# Altium integrated library Spansion Memory Flash.IntLib: 812 symbols (part 6 of 21)
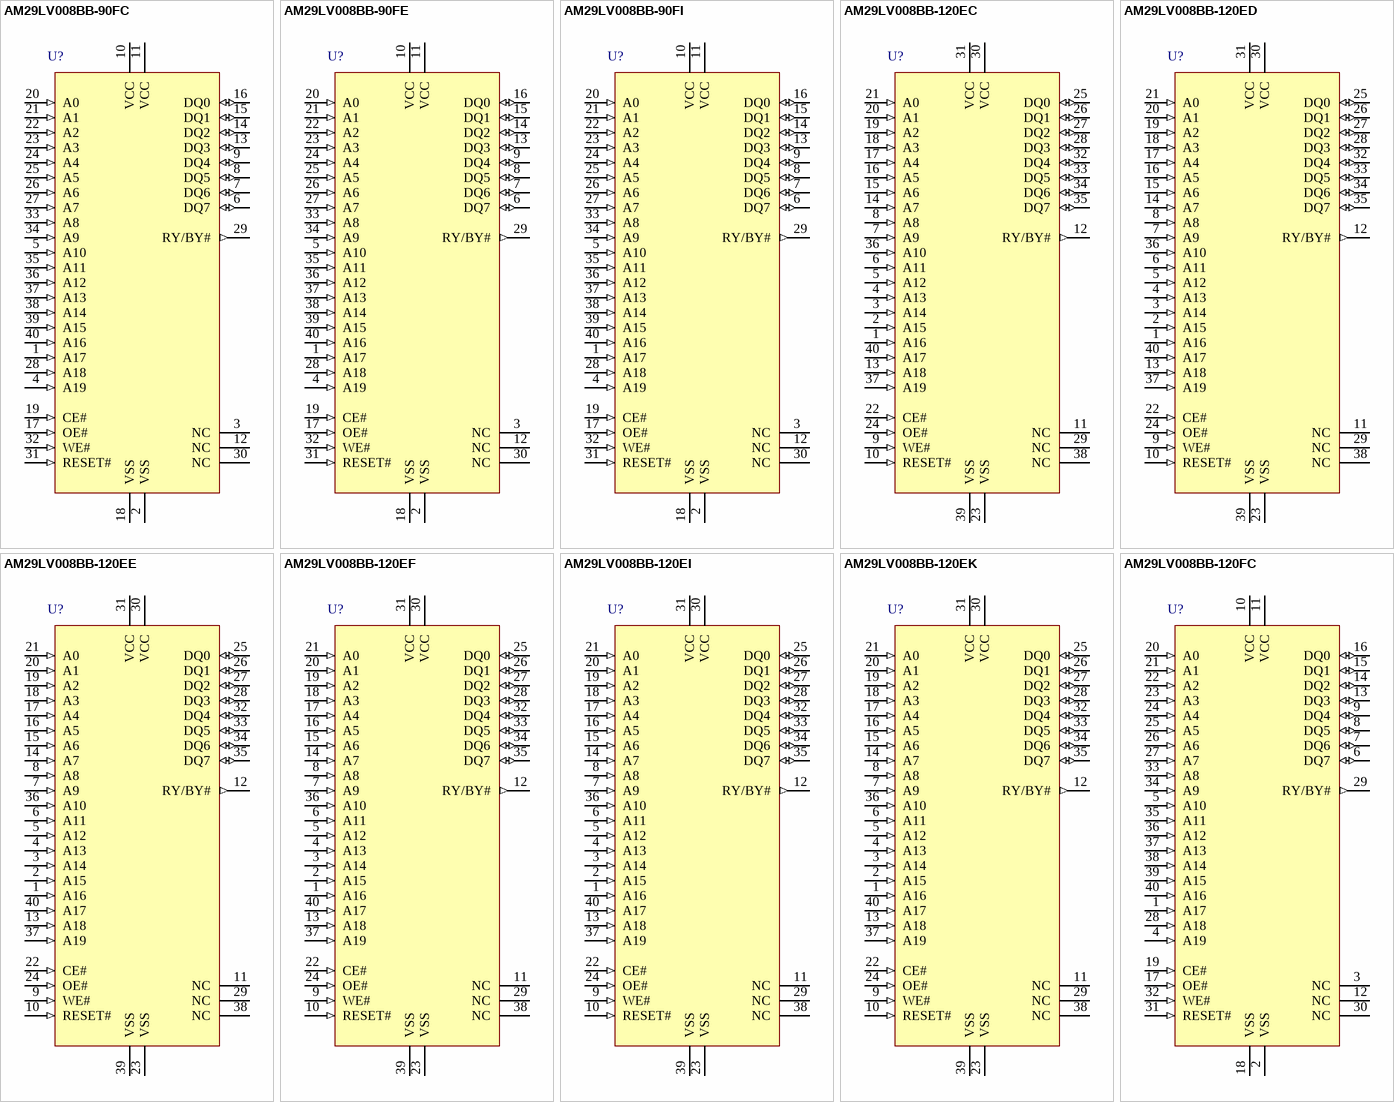
[diagram p71: symbols AM29LV008BB-90FC to AM29LV008BB-120FC]

## AM29LV008BB-120ED
designator U?
8 Mb (1 M x 8) CMOS 3.0 Volt Boot Sector Flash Memory, 40-Pin TSOP Standard Pinout, Commercial Grade, Pb-free; Published: 6-Oct-2005; DatasheetVersion: Jun-2004; PackageVersion: revAA, 10/99; PackageReference: TS040; Publisher: Altium Limited; PackageDescription: Thin Small Outline; 40 Leads; Body Width 18.4 mm; Pitch 0.5 mm; Code_JEDEC: MO-142-CD; ComponentLink1Description: Manufacturer Link; ComponentLink1URL: http://www.spansion.com/; ComponentLink2Description: Datasheet; ComponentLink2URL: http://www.spansion.com/datasheets/21524d3.pdf
footprint TS040 (Thin Small Outline; 40 Leads; Body Width 18.4 mm; Pitch 0.5 mm)
pins: 1 A16 (in), 2 A15 (in), 3 A14 (in), 4 A13 (in), 5 A12 (in), 6 A11 (in), 7 A9 (in), 8 A8 (in), 9 WE# (in), 10 RESET# (in), 11 NC, 12 RY/BY# (out), 13 A18 (in), 14 A7 (in), 15 A6 (in), 16 A5 (in), 17 A4 (in), 18 A3 (in), 19 A2 (in), 20 A1 (in), 21 A0 (in), 22 CE# (in), 23 VSS (power), 24 OE# (in), 25 DQ0 (io), 26 DQ1 (io), 27 DQ2 (io), 28 DQ3 (io), 29 NC, 30 VCC (power), 31 VCC (power), 32 DQ4 (io), 33 DQ5 (io), 34 DQ6 (io), 35 DQ7 (io), 36 A10 (in), 37 A19 (in), 38 NC, 39 VSS (power), 40 A17 (in)

## AM29LV008BB-120EE
designator U?
8 Mb (1 M x 8) CMOS 3.0 Volt Boot Sector Flash Memory, 40-Pin TSOP Standard Pinout, Extended Grade; Published: 6-Oct-2005; DatasheetVersion: Jun-2004; PackageVersion: revAA, 10/99; PackageReference: TS040; Publisher: Altium Limited; PackageDescription: Thin Small Outline; 40 Leads; Body Width 18.4 mm; Pitch 0.5 mm; Code_JEDEC: MO-142-CD; ComponentLink1Description: Manufacturer Link; ComponentLink1URL: http://www.spansion.com/; ComponentLink2Description: Datasheet; ComponentLink2URL: http://www.spansion.com/datasheets/21524d3.pdf
footprint TS040 (Thin Small Outline; 40 Leads; Body Width 18.4 mm; Pitch 0.5 mm)
pins: 1 A16 (in), 2 A15 (in), 3 A14 (in), 4 A13 (in), 5 A12 (in), 6 A11 (in), 7 A9 (in), 8 A8 (in), 9 WE# (in), 10 RESET# (in), 11 NC, 12 RY/BY# (out), 13 A18 (in), 14 A7 (in), 15 A6 (in), 16 A5 (in), 17 A4 (in), 18 A3 (in), 19 A2 (in), 20 A1 (in), 21 A0 (in), 22 CE# (in), 23 VSS (power), 24 OE# (in), 25 DQ0 (io), 26 DQ1 (io), 27 DQ2 (io), 28 DQ3 (io), 29 NC, 30 VCC (power), 31 VCC (power), 32 DQ4 (io), 33 DQ5 (io), 34 DQ6 (io), 35 DQ7 (io), 36 A10 (in), 37 A19 (in), 38 NC, 39 VSS (power), 40 A17 (in)

## AM29LV008BB-120EF
designator U?
8 Mb (1 M x 8) CMOS 3.0 Volt Boot Sector Flash Memory, 40-Pin TSOP Standard Pinout, Industrial Grade, Pb-free; Published: 6-Oct-2005; DatasheetVersion: Jun-2004; PackageVersion: revAA, 10/99; PackageReference: TS040; Publisher: Altium Limited; PackageDescription: Thin Small Outline; 40 Leads; Body Width 18.4 mm; Pitch 0.5 mm; Code_JEDEC: MO-142-CD; ComponentLink1Description: Manufacturer Link; ComponentLink1URL: http://www.spansion.com/; ComponentLink2Description: Datasheet; ComponentLink2URL: http://www.spansion.com/datasheets/21524d3.pdf
footprint TS040 (Thin Small Outline; 40 Leads; Body Width 18.4 mm; Pitch 0.5 mm)
pins: 1 A16 (in), 2 A15 (in), 3 A14 (in), 4 A13 (in), 5 A12 (in), 6 A11 (in), 7 A9 (in), 8 A8 (in), 9 WE# (in), 10 RESET# (in), 11 NC, 12 RY/BY# (out), 13 A18 (in), 14 A7 (in), 15 A6 (in), 16 A5 (in), 17 A4 (in), 18 A3 (in), 19 A2 (in), 20 A1 (in), 21 A0 (in), 22 CE# (in), 23 VSS (power), 24 OE# (in), 25 DQ0 (io), 26 DQ1 (io), 27 DQ2 (io), 28 DQ3 (io), 29 NC, 30 VCC (power), 31 VCC (power), 32 DQ4 (io), 33 DQ5 (io), 34 DQ6 (io), 35 DQ7 (io), 36 A10 (in), 37 A19 (in), 38 NC, 39 VSS (power), 40 A17 (in)

## AM29LV008BB-120EI
designator U?
8 Mb (1 M x 8) CMOS 3.0 Volt Boot Sector Flash Memory, 40-Pin TSOP Standard Pinout, Industrial Grade; Published: 6-Oct-2005; DatasheetVersion: Jun-2004; PackageVersion: revAA, 10/99; PackageReference: TS040; Publisher: Altium Limited; PackageDescription: Thin Small Outline; 40 Leads; Body Width 18.4 mm; Pitch 0.5 mm; Code_JEDEC: MO-142-CD; ComponentLink1Description: Manufacturer Link; ComponentLink1URL: http://www.spansion.com/; ComponentLink2Description: Datasheet; ComponentLink2URL: http://www.spansion.com/datasheets/21524d3.pdf
footprint TS040 (Thin Small Outline; 40 Leads; Body Width 18.4 mm; Pitch 0.5 mm)
pins: 1 A16 (in), 2 A15 (in), 3 A14 (in), 4 A13 (in), 5 A12 (in), 6 A11 (in), 7 A9 (in), 8 A8 (in), 9 WE# (in), 10 RESET# (in), 11 NC, 12 RY/BY# (out), 13 A18 (in), 14 A7 (in), 15 A6 (in), 16 A5 (in), 17 A4 (in), 18 A3 (in), 19 A2 (in), 20 A1 (in), 21 A0 (in), 22 CE# (in), 23 VSS (power), 24 OE# (in), 25 DQ0 (io), 26 DQ1 (io), 27 DQ2 (io), 28 DQ3 (io), 29 NC, 30 VCC (power), 31 VCC (power), 32 DQ4 (io), 33 DQ5 (io), 34 DQ6 (io), 35 DQ7 (io), 36 A10 (in), 37 A19 (in), 38 NC, 39 VSS (power), 40 A17 (in)

## AM29LV008BB-120EK
designator U?
8 Mb (1 M x 8) CMOS 3.0 Volt Boot Sector Flash Memory, 40-Pin TSOP Standard Pinout, Extended Grade, Pb-free; Published: 6-Oct-2005; DatasheetVersion: Jun-2004; PackageVersion: revAA, 10/99; PackageReference: TS040; Publisher: Altium Limited; PackageDescription: Thin Small Outline; 40 Leads; Body Width 18.4 mm; Pitch 0.5 mm; Code_JEDEC: MO-142-CD; ComponentLink1Description: Manufacturer Link; ComponentLink1URL: http://www.spansion.com/; ComponentLink2Description: Datasheet; ComponentLink2URL: http://www.spansion.com/datasheets/21524d3.pdf
footprint TS040 (Thin Small Outline; 40 Leads; Body Width 18.4 mm; Pitch 0.5 mm)
pins: 1 A16 (in), 2 A15 (in), 3 A14 (in), 4 A13 (in), 5 A12 (in), 6 A11 (in), 7 A9 (in), 8 A8 (in), 9 WE# (in), 10 RESET# (in), 11 NC, 12 RY/BY# (out), 13 A18 (in), 14 A7 (in), 15 A6 (in), 16 A5 (in), 17 A4 (in), 18 A3 (in), 19 A2 (in), 20 A1 (in), 21 A0 (in), 22 CE# (in), 23 VSS (power), 24 OE# (in), 25 DQ0 (io), 26 DQ1 (io), 27 DQ2 (io), 28 DQ3 (io), 29 NC, 30 VCC (power), 31 VCC (power), 32 DQ4 (io), 33 DQ5 (io), 34 DQ6 (io), 35 DQ7 (io), 36 A10 (in), 37 A19 (in), 38 NC, 39 VSS (power), 40 A17 (in)

## AM29LV008BB-120FC
designator U?
8 Mb (1 M x 8) CMOS 3.0 Volt Boot Sector Flash Memory, 40-Pin TSOP Reverse Pinout, Commercial Grade; Published: 6-Oct-2005; DatasheetVersion: Jun-2004; PackageVersion: revAA, 10/99; PackageReference: TSR040; Publisher: Altium Limited; PackageDescription: Thin Small Outline, Reverse Pinout; 40 Leads; Body Width 18.4 mm; Pitch 0.5 mm; Code_JEDEC: MO-142-CD; ComponentLink1Description: Manufacturer Link; ComponentLink1URL: http://www.spansion.com/; ComponentLink2Description: Datasheet; ComponentLink2URL: http://www.spansion.com/datasheets/21524d3.pdf
footprint TSR040 (Thin Small Outline, Reverse Pinout; 40 Leads; Body Width 18.4 mm; Pitch 0.5 mm)
pins: 1 A17 (in), 2 VSS (power), 3 NC, 4 A19 (in), 5 A10 (in), 6 DQ7 (io), 7 DQ6 (io), 8 DQ5 (io), 9 DQ4 (io), 10 VCC (power), 11 VCC (power), 12 NC, 13 DQ3 (io), 14 DQ2 (io), 15 DQ1 (io), 16 DQ0 (io), 17 OE# (in), 18 VSS (power), 19 CE# (in), 20 A0 (in), 21 A1 (in), 22 A2 (in), 23 A3 (in), 24 A4 (in), 25 A5 (in), 26 A6 (in), 27 A7 (in), 28 A18 (in), 29 RY/BY# (out), 30 NC, 31 RESET# (in), 32 WE# (in), 33 A8 (in), 34 A9 (in), 35 A11 (in), 36 A12 (in), 37 A13 (in), 38 A14 (in), 39 A15 (in), 40 A16 (in)

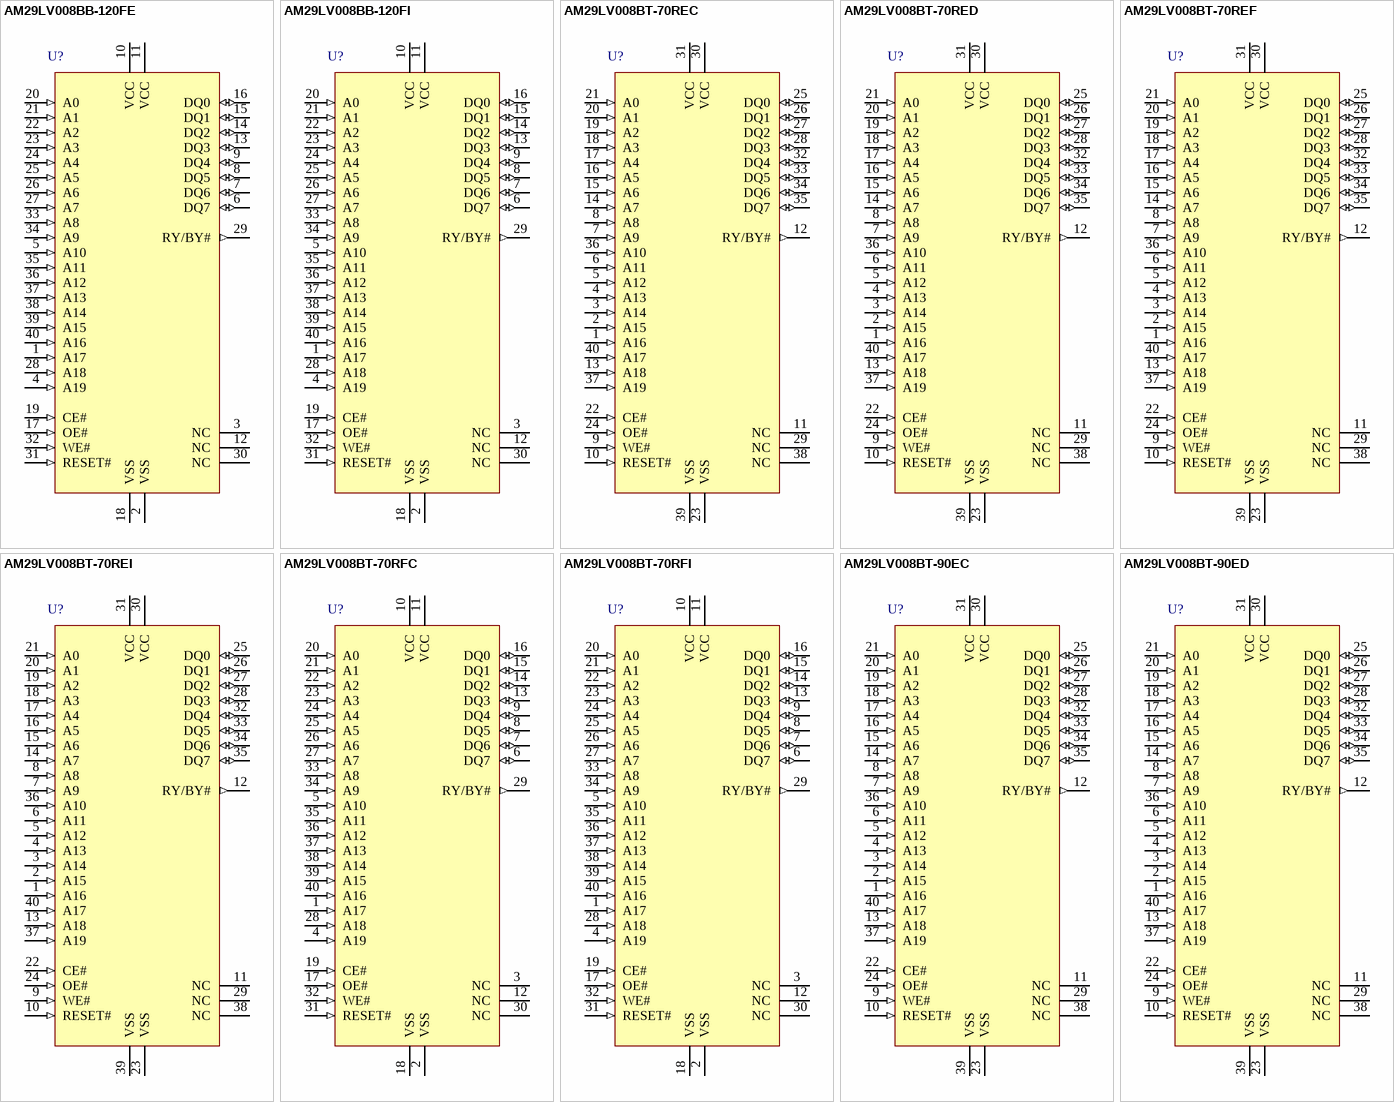
[diagram p16: symbols AM29LV008BB-120FE to AM29LV008BT-90ED]

## AM29LV008BB-120FE
designator U?
8 Mb (1 M x 8) CMOS 3.0 Volt Boot Sector Flash Memory, 40-Pin TSOP Reverse Pinout, Extended Grade; Published: 6-Oct-2005; DatasheetVersion: Jun-2004; PackageVersion: revAA, 10/99; PackageReference: TSR040; Publisher: Altium Limited; PackageDescription: Thin Small Outline, Reverse Pinout; 40 Leads; Body Width 18.4 mm; Pitch 0.5 mm; Code_JEDEC: MO-142-CD; ComponentLink1Description: Manufacturer Link; ComponentLink1URL: http://www.spansion.com/; ComponentLink2Description: Datasheet; ComponentLink2URL: http://www.spansion.com/datasheets/21524d3.pdf
footprint TSR040 (Thin Small Outline, Reverse Pinout; 40 Leads; Body Width 18.4 mm; Pitch 0.5 mm)
pins: 1 A17 (in), 2 VSS (power), 3 NC, 4 A19 (in), 5 A10 (in), 6 DQ7 (io), 7 DQ6 (io), 8 DQ5 (io), 9 DQ4 (io), 10 VCC (power), 11 VCC (power), 12 NC, 13 DQ3 (io), 14 DQ2 (io), 15 DQ1 (io), 16 DQ0 (io), 17 OE# (in), 18 VSS (power), 19 CE# (in), 20 A0 (in), 21 A1 (in), 22 A2 (in), 23 A3 (in), 24 A4 (in), 25 A5 (in), 26 A6 (in), 27 A7 (in), 28 A18 (in), 29 RY/BY# (out), 30 NC, 31 RESET# (in), 32 WE# (in), 33 A8 (in), 34 A9 (in), 35 A11 (in), 36 A12 (in), 37 A13 (in), 38 A14 (in), 39 A15 (in), 40 A16 (in)

## AM29LV008BB-120FI
designator U?
8 Mb (1 M x 8) CMOS 3.0 Volt Boot Sector Flash Memory, 40-Pin TSOP Reverse Pinout, Industrial Grade; Published: 6-Oct-2005; DatasheetVersion: Jun-2004; PackageVersion: revAA, 10/99; PackageReference: TSR040; Publisher: Altium Limited; PackageDescription: Thin Small Outline, Reverse Pinout; 40 Leads; Body Width 18.4 mm; Pitch 0.5 mm; Code_JEDEC: MO-142-CD; ComponentLink1Description: Manufacturer Link; ComponentLink1URL: http://www.spansion.com/; ComponentLink2Description: Datasheet; ComponentLink2URL: http://www.spansion.com/datasheets/21524d3.pdf
footprint TSR040 (Thin Small Outline, Reverse Pinout; 40 Leads; Body Width 18.4 mm; Pitch 0.5 mm)
pins: 1 A17 (in), 2 VSS (power), 3 NC, 4 A19 (in), 5 A10 (in), 6 DQ7 (io), 7 DQ6 (io), 8 DQ5 (io), 9 DQ4 (io), 10 VCC (power), 11 VCC (power), 12 NC, 13 DQ3 (io), 14 DQ2 (io), 15 DQ1 (io), 16 DQ0 (io), 17 OE# (in), 18 VSS (power), 19 CE# (in), 20 A0 (in), 21 A1 (in), 22 A2 (in), 23 A3 (in), 24 A4 (in), 25 A5 (in), 26 A6 (in), 27 A7 (in), 28 A18 (in), 29 RY/BY# (out), 30 NC, 31 RESET# (in), 32 WE# (in), 33 A8 (in), 34 A9 (in), 35 A11 (in), 36 A12 (in), 37 A13 (in), 38 A14 (in), 39 A15 (in), 40 A16 (in)

## AM29LV008BT-70REC
designator U?
8 Mb (1 M x 8) CMOS 3.0 Volt Boot Sector Flash Memory, 40-Pin TSOP Standard Pinout, Commercial Grade; Published: 6-Oct-2005; DatasheetVersion: Jun-2004; PackageVersion: revAA, 10/99; PackageReference: TS040; Publisher: Altium Limited; PackageDescription: Thin Small Outline; 40 Leads; Body Width 18.4 mm; Pitch 0.5 mm; Code_JEDEC: MO-142-CD; ComponentLink1Description: Manufacturer Link; ComponentLink1URL: http://www.spansion.com/; ComponentLink2Description: Datasheet; ComponentLink2URL: http://www.spansion.com/datasheets/21524d3.pdf
footprint TS040 (Thin Small Outline; 40 Leads; Body Width 18.4 mm; Pitch 0.5 mm)
pins: 1 A16 (in), 2 A15 (in), 3 A14 (in), 4 A13 (in), 5 A12 (in), 6 A11 (in), 7 A9 (in), 8 A8 (in), 9 WE# (in), 10 RESET# (in), 11 NC, 12 RY/BY# (out), 13 A18 (in), 14 A7 (in), 15 A6 (in), 16 A5 (in), 17 A4 (in), 18 A3 (in), 19 A2 (in), 20 A1 (in), 21 A0 (in), 22 CE# (in), 23 VSS (power), 24 OE# (in), 25 DQ0 (io), 26 DQ1 (io), 27 DQ2 (io), 28 DQ3 (io), 29 NC, 30 VCC (power), 31 VCC (power), 32 DQ4 (io), 33 DQ5 (io), 34 DQ6 (io), 35 DQ7 (io), 36 A10 (in), 37 A19 (in), 38 NC, 39 VSS (power), 40 A17 (in)

## AM29LV008BT-70RED
designator U?
8 Mb (1 M x 8) CMOS 3.0 Volt Boot Sector Flash Memory, 40-Pin TSOP Standard Pinout, Commercial Grade, Pb-free; Published: 6-Oct-2005; DatasheetVersion: Jun-2004; PackageVersion: revAA, 10/99; PackageReference: TS040; Publisher: Altium Limited; PackageDescription: Thin Small Outline; 40 Leads; Body Width 18.4 mm; Pitch 0.5 mm; Code_JEDEC: MO-142-CD; ComponentLink1Description: Manufacturer Link; ComponentLink1URL: http://www.spansion.com/; ComponentLink2Description: Datasheet; ComponentLink2URL: http://www.spansion.com/datasheets/21524d3.pdf
footprint TS040 (Thin Small Outline; 40 Leads; Body Width 18.4 mm; Pitch 0.5 mm)
pins: 1 A16 (in), 2 A15 (in), 3 A14 (in), 4 A13 (in), 5 A12 (in), 6 A11 (in), 7 A9 (in), 8 A8 (in), 9 WE# (in), 10 RESET# (in), 11 NC, 12 RY/BY# (out), 13 A18 (in), 14 A7 (in), 15 A6 (in), 16 A5 (in), 17 A4 (in), 18 A3 (in), 19 A2 (in), 20 A1 (in), 21 A0 (in), 22 CE# (in), 23 VSS (power), 24 OE# (in), 25 DQ0 (io), 26 DQ1 (io), 27 DQ2 (io), 28 DQ3 (io), 29 NC, 30 VCC (power), 31 VCC (power), 32 DQ4 (io), 33 DQ5 (io), 34 DQ6 (io), 35 DQ7 (io), 36 A10 (in), 37 A19 (in), 38 NC, 39 VSS (power), 40 A17 (in)

## AM29LV008BT-70REF
designator U?
8 Mb (1 M x 8) CMOS 3.0 Volt Boot Sector Flash Memory, 40-Pin TSOP Standard Pinout, Industrial Grade, Pb-free; Published: 6-Oct-2005; DatasheetVersion: Jun-2004; PackageVersion: revAA, 10/99; PackageReference: TS040; Publisher: Altium Limited; PackageDescription: Thin Small Outline; 40 Leads; Body Width 18.4 mm; Pitch 0.5 mm; Code_JEDEC: MO-142-CD; ComponentLink1Description: Manufacturer Link; ComponentLink1URL: http://www.spansion.com/; ComponentLink2Description: Datasheet; ComponentLink2URL: http://www.spansion.com/datasheets/21524d3.pdf
footprint TS040 (Thin Small Outline; 40 Leads; Body Width 18.4 mm; Pitch 0.5 mm)
pins: 1 A16 (in), 2 A15 (in), 3 A14 (in), 4 A13 (in), 5 A12 (in), 6 A11 (in), 7 A9 (in), 8 A8 (in), 9 WE# (in), 10 RESET# (in), 11 NC, 12 RY/BY# (out), 13 A18 (in), 14 A7 (in), 15 A6 (in), 16 A5 (in), 17 A4 (in), 18 A3 (in), 19 A2 (in), 20 A1 (in), 21 A0 (in), 22 CE# (in), 23 VSS (power), 24 OE# (in), 25 DQ0 (io), 26 DQ1 (io), 27 DQ2 (io), 28 DQ3 (io), 29 NC, 30 VCC (power), 31 VCC (power), 32 DQ4 (io), 33 DQ5 (io), 34 DQ6 (io), 35 DQ7 (io), 36 A10 (in), 37 A19 (in), 38 NC, 39 VSS (power), 40 A17 (in)

## AM29LV008BT-70REI
designator U?
8 Mb (1 M x 8) CMOS 3.0 Volt Boot Sector Flash Memory, 40-Pin TSOP Standard Pinout, Industrial Grade; Published: 6-Oct-2005; DatasheetVersion: Jun-2004; PackageVersion: revAA, 10/99; PackageReference: TS040; Publisher: Altium Limited; PackageDescription: Thin Small Outline; 40 Leads; Body Width 18.4 mm; Pitch 0.5 mm; Code_JEDEC: MO-142-CD; ComponentLink1Description: Manufacturer Link; ComponentLink1URL: http://www.spansion.com/; ComponentLink2Description: Datasheet; ComponentLink2URL: http://www.spansion.com/datasheets/21524d3.pdf
footprint TS040 (Thin Small Outline; 40 Leads; Body Width 18.4 mm; Pitch 0.5 mm)
pins: 1 A16 (in), 2 A15 (in), 3 A14 (in), 4 A13 (in), 5 A12 (in), 6 A11 (in), 7 A9 (in), 8 A8 (in), 9 WE# (in), 10 RESET# (in), 11 NC, 12 RY/BY# (out), 13 A18 (in), 14 A7 (in), 15 A6 (in), 16 A5 (in), 17 A4 (in), 18 A3 (in), 19 A2 (in), 20 A1 (in), 21 A0 (in), 22 CE# (in), 23 VSS (power), 24 OE# (in), 25 DQ0 (io), 26 DQ1 (io), 27 DQ2 (io), 28 DQ3 (io), 29 NC, 30 VCC (power), 31 VCC (power), 32 DQ4 (io), 33 DQ5 (io), 34 DQ6 (io), 35 DQ7 (io), 36 A10 (in), 37 A19 (in), 38 NC, 39 VSS (power), 40 A17 (in)

## AM29LV008BT-70RFC
designator U?
8 Mb (1 M x 8) CMOS 3.0 Volt Boot Sector Flash Memory, 40-Pin TSOP Reverse Pinout, Commercial Grade; Published: 6-Oct-2005; DatasheetVersion: Jun-2004; PackageVersion: revAA, 10/99; PackageReference: TSR040; Publisher: Altium Limited; PackageDescription: Thin Small Outline, Reverse Pinout; 40 Leads; Body Width 18.4 mm; Pitch 0.5 mm; Code_JEDEC: MO-142-CD; ComponentLink1Description: Manufacturer Link; ComponentLink1URL: http://www.spansion.com/; ComponentLink2Description: Datasheet; ComponentLink2URL: http://www.spansion.com/datasheets/21524d3.pdf
footprint TSR040 (Thin Small Outline, Reverse Pinout; 40 Leads; Body Width 18.4 mm; Pitch 0.5 mm)
pins: 1 A17 (in), 2 VSS (power), 3 NC, 4 A19 (in), 5 A10 (in), 6 DQ7 (io), 7 DQ6 (io), 8 DQ5 (io), 9 DQ4 (io), 10 VCC (power), 11 VCC (power), 12 NC, 13 DQ3 (io), 14 DQ2 (io), 15 DQ1 (io), 16 DQ0 (io), 17 OE# (in), 18 VSS (power), 19 CE# (in), 20 A0 (in), 21 A1 (in), 22 A2 (in), 23 A3 (in), 24 A4 (in), 25 A5 (in), 26 A6 (in), 27 A7 (in), 28 A18 (in), 29 RY/BY# (out), 30 NC, 31 RESET# (in), 32 WE# (in), 33 A8 (in), 34 A9 (in), 35 A11 (in), 36 A12 (in), 37 A13 (in), 38 A14 (in), 39 A15 (in), 40 A16 (in)

## AM29LV008BT-70RFI
designator U?
8 Mb (1 M x 8) CMOS 3.0 Volt Boot Sector Flash Memory, 40-Pin TSOP Reverse Pinout, Industrial Grade; Published: 6-Oct-2005; DatasheetVersion: Jun-2004; PackageVersion: revAA, 10/99; PackageReference: TSR040; Publisher: Altium Limited; PackageDescription: Thin Small Outline, Reverse Pinout; 40 Leads; Body Width 18.4 mm; Pitch 0.5 mm; Code_JEDEC: MO-142-CD; ComponentLink1Description: Manufacturer Link; ComponentLink1URL: http://www.spansion.com/; ComponentLink2Description: Datasheet; ComponentLink2URL: http://www.spansion.com/datasheets/21524d3.pdf
footprint TSR040 (Thin Small Outline, Reverse Pinout; 40 Leads; Body Width 18.4 mm; Pitch 0.5 mm)
pins: 1 A17 (in), 2 VSS (power), 3 NC, 4 A19 (in), 5 A10 (in), 6 DQ7 (io), 7 DQ6 (io), 8 DQ5 (io), 9 DQ4 (io), 10 VCC (power), 11 VCC (power), 12 NC, 13 DQ3 (io), 14 DQ2 (io), 15 DQ1 (io), 16 DQ0 (io), 17 OE# (in), 18 VSS (power), 19 CE# (in), 20 A0 (in), 21 A1 (in), 22 A2 (in), 23 A3 (in), 24 A4 (in), 25 A5 (in), 26 A6 (in), 27 A7 (in), 28 A18 (in), 29 RY/BY# (out), 30 NC, 31 RESET# (in), 32 WE# (in), 33 A8 (in), 34 A9 (in), 35 A11 (in), 36 A12 (in), 37 A13 (in), 38 A14 (in), 39 A15 (in), 40 A16 (in)

## AM29LV008BT-90EC
designator U?
8 Mb (1 M x 8) CMOS 3.0 Volt Boot Sector Flash Memory, 40-Pin TSOP Standard Pinout, Commercial Grade; Published: 6-Oct-2005; DatasheetVersion: Jun-2004; PackageVersion: revAA, 10/99; PackageReference: TS040; Publisher: Altium Limited; PackageDescription: Thin Small Outline; 40 Leads; Body Width 18.4 mm; Pitch 0.5 mm; Code_JEDEC: MO-142-CD; ComponentLink1Description: Manufacturer Link; ComponentLink1URL: http://www.spansion.com/; ComponentLink2Description: Datasheet; ComponentLink2URL: http://www.spansion.com/datasheets/21524d3.pdf
footprint TS040 (Thin Small Outline; 40 Leads; Body Width 18.4 mm; Pitch 0.5 mm)
pins: 1 A16 (in), 2 A15 (in), 3 A14 (in), 4 A13 (in), 5 A12 (in), 6 A11 (in), 7 A9 (in), 8 A8 (in), 9 WE# (in), 10 RESET# (in), 11 NC, 12 RY/BY# (out), 13 A18 (in), 14 A7 (in), 15 A6 (in), 16 A5 (in), 17 A4 (in), 18 A3 (in), 19 A2 (in), 20 A1 (in), 21 A0 (in), 22 CE# (in), 23 VSS (power), 24 OE# (in), 25 DQ0 (io), 26 DQ1 (io), 27 DQ2 (io), 28 DQ3 (io), 29 NC, 30 VCC (power), 31 VCC (power), 32 DQ4 (io), 33 DQ5 (io), 34 DQ6 (io), 35 DQ7 (io), 36 A10 (in), 37 A19 (in), 38 NC, 39 VSS (power), 40 A17 (in)

## AM29LV008BT-90ED
designator U?
8 Mb (1 M x 8) CMOS 3.0 Volt Boot Sector Flash Memory, 40-Pin TSOP Standard Pinout, Commercial Grade, Pb-free; Published: 6-Oct-2005; DatasheetVersion: Jun-2004; PackageVersion: revAA, 10/99; PackageReference: TS040; Publisher: Altium Limited; PackageDescription: Thin Small Outline; 40 Leads; Body Width 18.4 mm; Pitch 0.5 mm; Code_JEDEC: MO-142-CD; ComponentLink1Description: Manufacturer Link; ComponentLink1URL: http://www.spansion.com/; ComponentLink2Description: Datasheet; ComponentLink2URL: http://www.spansion.com/datasheets/21524d3.pdf
footprint TS040 (Thin Small Outline; 40 Leads; Body Width 18.4 mm; Pitch 0.5 mm)
pins: 1 A16 (in), 2 A15 (in), 3 A14 (in), 4 A13 (in), 5 A12 (in), 6 A11 (in), 7 A9 (in), 8 A8 (in), 9 WE# (in), 10 RESET# (in), 11 NC, 12 RY/BY# (out), 13 A18 (in), 14 A7 (in), 15 A6 (in), 16 A5 (in), 17 A4 (in), 18 A3 (in), 19 A2 (in), 20 A1 (in), 21 A0 (in), 22 CE# (in), 23 VSS (power), 24 OE# (in), 25 DQ0 (io), 26 DQ1 (io), 27 DQ2 (io), 28 DQ3 (io), 29 NC, 30 VCC (power), 31 VCC (power), 32 DQ4 (io), 33 DQ5 (io), 34 DQ6 (io), 35 DQ7 (io), 36 A10 (in), 37 A19 (in), 38 NC, 39 VSS (power), 40 A17 (in)

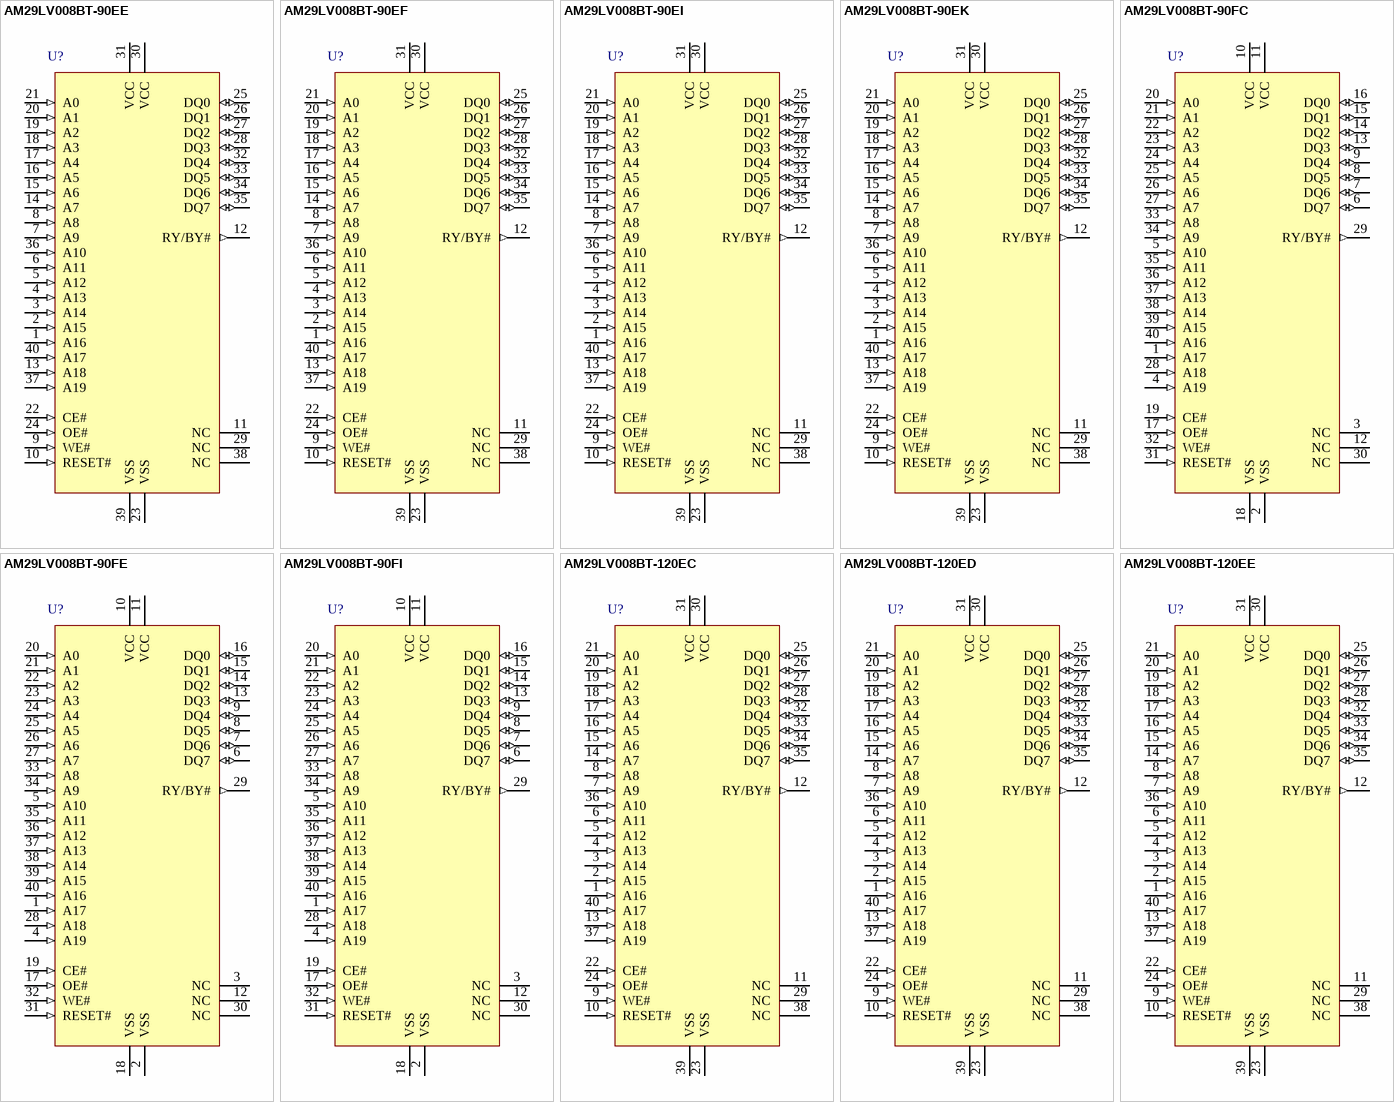
[diagram p17: symbols AM29LV008BT-90EE to AM29LV008BT-120EE]

## AM29LV008BT-90EE
designator U?
8 Mb (1 M x 8) CMOS 3.0 Volt Boot Sector Flash Memory, 40-Pin TSOP Standard Pinout, Extended Grade; Published: 6-Oct-2005; DatasheetVersion: Jun-2004; PackageVersion: revAA, 10/99; PackageReference: TS040; Publisher: Altium Limited; PackageDescription: Thin Small Outline; 40 Leads; Body Width 18.4 mm; Pitch 0.5 mm; Code_JEDEC: MO-142-CD; ComponentLink1Description: Manufacturer Link; ComponentLink1URL: http://www.spansion.com/; ComponentLink2Description: Datasheet; ComponentLink2URL: http://www.spansion.com/datasheets/21524d3.pdf
footprint TS040 (Thin Small Outline; 40 Leads; Body Width 18.4 mm; Pitch 0.5 mm)
pins: 1 A16 (in), 2 A15 (in), 3 A14 (in), 4 A13 (in), 5 A12 (in), 6 A11 (in), 7 A9 (in), 8 A8 (in), 9 WE# (in), 10 RESET# (in), 11 NC, 12 RY/BY# (out), 13 A18 (in), 14 A7 (in), 15 A6 (in), 16 A5 (in), 17 A4 (in), 18 A3 (in), 19 A2 (in), 20 A1 (in), 21 A0 (in), 22 CE# (in), 23 VSS (power), 24 OE# (in), 25 DQ0 (io), 26 DQ1 (io), 27 DQ2 (io), 28 DQ3 (io), 29 NC, 30 VCC (power), 31 VCC (power), 32 DQ4 (io), 33 DQ5 (io), 34 DQ6 (io), 35 DQ7 (io), 36 A10 (in), 37 A19 (in), 38 NC, 39 VSS (power), 40 A17 (in)

## AM29LV008BT-90EF
designator U?
8 Mb (1 M x 8) CMOS 3.0 Volt Boot Sector Flash Memory, 40-Pin TSOP Standard Pinout, Industrial Grade, Pb-free; Published: 6-Oct-2005; DatasheetVersion: Jun-2004; PackageVersion: revAA, 10/99; PackageReference: TS040; Publisher: Altium Limited; PackageDescription: Thin Small Outline; 40 Leads; Body Width 18.4 mm; Pitch 0.5 mm; Code_JEDEC: MO-142-CD; ComponentLink1Description: Manufacturer Link; ComponentLink1URL: http://www.spansion.com/; ComponentLink2Description: Datasheet; ComponentLink2URL: http://www.spansion.com/datasheets/21524d3.pdf
footprint TS040 (Thin Small Outline; 40 Leads; Body Width 18.4 mm; Pitch 0.5 mm)
pins: 1 A16 (in), 2 A15 (in), 3 A14 (in), 4 A13 (in), 5 A12 (in), 6 A11 (in), 7 A9 (in), 8 A8 (in), 9 WE# (in), 10 RESET# (in), 11 NC, 12 RY/BY# (out), 13 A18 (in), 14 A7 (in), 15 A6 (in), 16 A5 (in), 17 A4 (in), 18 A3 (in), 19 A2 (in), 20 A1 (in), 21 A0 (in), 22 CE# (in), 23 VSS (power), 24 OE# (in), 25 DQ0 (io), 26 DQ1 (io), 27 DQ2 (io), 28 DQ3 (io), 29 NC, 30 VCC (power), 31 VCC (power), 32 DQ4 (io), 33 DQ5 (io), 34 DQ6 (io), 35 DQ7 (io), 36 A10 (in), 37 A19 (in), 38 NC, 39 VSS (power), 40 A17 (in)

## AM29LV008BT-90EI
designator U?
8 Mb (1 M x 8) CMOS 3.0 Volt Boot Sector Flash Memory, 40-Pin TSOP Standard Pinout, Industrial Grade; Published: 6-Oct-2005; DatasheetVersion: Jun-2004; PackageVersion: revAA, 10/99; PackageReference: TS040; Publisher: Altium Limited; PackageDescription: Thin Small Outline; 40 Leads; Body Width 18.4 mm; Pitch 0.5 mm; Code_JEDEC: MO-142-CD; ComponentLink1Description: Manufacturer Link; ComponentLink1URL: http://www.spansion.com/; ComponentLink2Description: Datasheet; ComponentLink2URL: http://www.spansion.com/datasheets/21524d3.pdf
footprint TS040 (Thin Small Outline; 40 Leads; Body Width 18.4 mm; Pitch 0.5 mm)
pins: 1 A16 (in), 2 A15 (in), 3 A14 (in), 4 A13 (in), 5 A12 (in), 6 A11 (in), 7 A9 (in), 8 A8 (in), 9 WE# (in), 10 RESET# (in), 11 NC, 12 RY/BY# (out), 13 A18 (in), 14 A7 (in), 15 A6 (in), 16 A5 (in), 17 A4 (in), 18 A3 (in), 19 A2 (in), 20 A1 (in), 21 A0 (in), 22 CE# (in), 23 VSS (power), 24 OE# (in), 25 DQ0 (io), 26 DQ1 (io), 27 DQ2 (io), 28 DQ3 (io), 29 NC, 30 VCC (power), 31 VCC (power), 32 DQ4 (io), 33 DQ5 (io), 34 DQ6 (io), 35 DQ7 (io), 36 A10 (in), 37 A19 (in), 38 NC, 39 VSS (power), 40 A17 (in)

## AM29LV008BT-90EK
designator U?
8 Mb (1 M x 8) CMOS 3.0 Volt Boot Sector Flash Memory, 40-Pin TSOP Standard Pinout, Extended Grade, Pb-free; Published: 6-Oct-2005; DatasheetVersion: Jun-2004; PackageVersion: revAA, 10/99; PackageReference: TS040; Publisher: Altium Limited; PackageDescription: Thin Small Outline; 40 Leads; Body Width 18.4 mm; Pitch 0.5 mm; Code_JEDEC: MO-142-CD; ComponentLink1Description: Manufacturer Link; ComponentLink1URL: http://www.spansion.com/; ComponentLink2Description: Datasheet; ComponentLink2URL: http://www.spansion.com/datasheets/21524d3.pdf
footprint TS040 (Thin Small Outline; 40 Leads; Body Width 18.4 mm; Pitch 0.5 mm)
pins: 1 A16 (in), 2 A15 (in), 3 A14 (in), 4 A13 (in), 5 A12 (in), 6 A11 (in), 7 A9 (in), 8 A8 (in), 9 WE# (in), 10 RESET# (in), 11 NC, 12 RY/BY# (out), 13 A18 (in), 14 A7 (in), 15 A6 (in), 16 A5 (in), 17 A4 (in), 18 A3 (in), 19 A2 (in), 20 A1 (in), 21 A0 (in), 22 CE# (in), 23 VSS (power), 24 OE# (in), 25 DQ0 (io), 26 DQ1 (io), 27 DQ2 (io), 28 DQ3 (io), 29 NC, 30 VCC (power), 31 VCC (power), 32 DQ4 (io), 33 DQ5 (io), 34 DQ6 (io), 35 DQ7 (io), 36 A10 (in), 37 A19 (in), 38 NC, 39 VSS (power), 40 A17 (in)

## AM29LV008BT-90FC
designator U?
8 Mb (1 M x 8) CMOS 3.0 Volt Boot Sector Flash Memory, 40-Pin TSOP Reverse Pinout, Commercial Grade; Published: 6-Oct-2005; DatasheetVersion: Jun-2004; PackageVersion: revAA, 10/99; PackageReference: TSR040; Publisher: Altium Limited; PackageDescription: Thin Small Outline, Reverse Pinout; 40 Leads; Body Width 18.4 mm; Pitch 0.5 mm; Code_JEDEC: MO-142-CD; ComponentLink1Description: Manufacturer Link; ComponentLink1URL: http://www.spansion.com/; ComponentLink2Description: Datasheet; ComponentLink2URL: http://www.spansion.com/datasheets/21524d3.pdf
footprint TSR040 (Thin Small Outline, Reverse Pinout; 40 Leads; Body Width 18.4 mm; Pitch 0.5 mm)
pins: 1 A17 (in), 2 VSS (power), 3 NC, 4 A19 (in), 5 A10 (in), 6 DQ7 (io), 7 DQ6 (io), 8 DQ5 (io), 9 DQ4 (io), 10 VCC (power), 11 VCC (power), 12 NC, 13 DQ3 (io), 14 DQ2 (io), 15 DQ1 (io), 16 DQ0 (io), 17 OE# (in), 18 VSS (power), 19 CE# (in), 20 A0 (in), 21 A1 (in), 22 A2 (in), 23 A3 (in), 24 A4 (in), 25 A5 (in), 26 A6 (in), 27 A7 (in), 28 A18 (in), 29 RY/BY# (out), 30 NC, 31 RESET# (in), 32 WE# (in), 33 A8 (in), 34 A9 (in), 35 A11 (in), 36 A12 (in), 37 A13 (in), 38 A14 (in), 39 A15 (in), 40 A16 (in)

## AM29LV008BT-90FE
designator U?
8 Mb (1 M x 8) CMOS 3.0 Volt Boot Sector Flash Memory, 40-Pin TSOP Reverse Pinout, Extended Grade; Published: 6-Oct-2005; DatasheetVersion: Jun-2004; PackageVersion: revAA, 10/99; PackageReference: TSR040; Publisher: Altium Limited; PackageDescription: Thin Small Outline, Reverse Pinout; 40 Leads; Body Width 18.4 mm; Pitch 0.5 mm; Code_JEDEC: MO-142-CD; ComponentLink1Description: Manufacturer Link; ComponentLink1URL: http://www.spansion.com/; ComponentLink2Description: Datasheet; ComponentLink2URL: http://www.spansion.com/datasheets/21524d3.pdf
footprint TSR040 (Thin Small Outline, Reverse Pinout; 40 Leads; Body Width 18.4 mm; Pitch 0.5 mm)
pins: 1 A17 (in), 2 VSS (power), 3 NC, 4 A19 (in), 5 A10 (in), 6 DQ7 (io), 7 DQ6 (io), 8 DQ5 (io), 9 DQ4 (io), 10 VCC (power), 11 VCC (power), 12 NC, 13 DQ3 (io), 14 DQ2 (io), 15 DQ1 (io), 16 DQ0 (io), 17 OE# (in), 18 VSS (power), 19 CE# (in), 20 A0 (in), 21 A1 (in), 22 A2 (in), 23 A3 (in), 24 A4 (in), 25 A5 (in), 26 A6 (in), 27 A7 (in), 28 A18 (in), 29 RY/BY# (out), 30 NC, 31 RESET# (in), 32 WE# (in), 33 A8 (in), 34 A9 (in), 35 A11 (in), 36 A12 (in), 37 A13 (in), 38 A14 (in), 39 A15 (in), 40 A16 (in)

## AM29LV008BT-90FI
designator U?
8 Mb (1 M x 8) CMOS 3.0 Volt Boot Sector Flash Memory, 40-Pin TSOP Reverse Pinout, Industrial Grade; Published: 6-Oct-2005; DatasheetVersion: Jun-2004; PackageVersion: revAA, 10/99; PackageReference: TSR040; Publisher: Altium Limited; PackageDescription: Thin Small Outline, Reverse Pinout; 40 Leads; Body Width 18.4 mm; Pitch 0.5 mm; Code_JEDEC: MO-142-CD; ComponentLink1Description: Manufacturer Link; ComponentLink1URL: http://www.spansion.com/; ComponentLink2Description: Datasheet; ComponentLink2URL: http://www.spansion.com/datasheets/21524d3.pdf
footprint TSR040 (Thin Small Outline, Reverse Pinout; 40 Leads; Body Width 18.4 mm; Pitch 0.5 mm)
pins: 1 A17 (in), 2 VSS (power), 3 NC, 4 A19 (in), 5 A10 (in), 6 DQ7 (io), 7 DQ6 (io), 8 DQ5 (io), 9 DQ4 (io), 10 VCC (power), 11 VCC (power), 12 NC, 13 DQ3 (io), 14 DQ2 (io), 15 DQ1 (io), 16 DQ0 (io), 17 OE# (in), 18 VSS (power), 19 CE# (in), 20 A0 (in), 21 A1 (in), 22 A2 (in), 23 A3 (in), 24 A4 (in), 25 A5 (in), 26 A6 (in), 27 A7 (in), 28 A18 (in), 29 RY/BY# (out), 30 NC, 31 RESET# (in), 32 WE# (in), 33 A8 (in), 34 A9 (in), 35 A11 (in), 36 A12 (in), 37 A13 (in), 38 A14 (in), 39 A15 (in), 40 A16 (in)

## AM29LV008BT-120EC
designator U?
8 Mb (1 M x 8) CMOS 3.0 Volt Boot Sector Flash Memory, 40-Pin TSOP Standard Pinout, Commercial Grade; Published: 6-Oct-2005; DatasheetVersion: Jun-2004; PackageVersion: revAA, 10/99; PackageReference: TS040; Publisher: Altium Limited; PackageDescription: Thin Small Outline; 40 Leads; Body Width 18.4 mm; Pitch 0.5 mm; Code_JEDEC: MO-142-CD; ComponentLink1Description: Manufacturer Link; ComponentLink1URL: http://www.spansion.com/; ComponentLink2Description: Datasheet; ComponentLink2URL: http://www.spansion.com/datasheets/21524d3.pdf
footprint TS040 (Thin Small Outline; 40 Leads; Body Width 18.4 mm; Pitch 0.5 mm)
pins: 1 A16 (in), 2 A15 (in), 3 A14 (in), 4 A13 (in), 5 A12 (in), 6 A11 (in), 7 A9 (in), 8 A8 (in), 9 WE# (in), 10 RESET# (in), 11 NC, 12 RY/BY# (out), 13 A18 (in), 14 A7 (in), 15 A6 (in), 16 A5 (in), 17 A4 (in), 18 A3 (in), 19 A2 (in), 20 A1 (in), 21 A0 (in), 22 CE# (in), 23 VSS (power), 24 OE# (in), 25 DQ0 (io), 26 DQ1 (io), 27 DQ2 (io), 28 DQ3 (io), 29 NC, 30 VCC (power), 31 VCC (power), 32 DQ4 (io), 33 DQ5 (io), 34 DQ6 (io), 35 DQ7 (io), 36 A10 (in), 37 A19 (in), 38 NC, 39 VSS (power), 40 A17 (in)

## AM29LV008BT-120ED
designator U?
8 Mb (1 M x 8) CMOS 3.0 Volt Boot Sector Flash Memory, 40-Pin TSOP Standard Pinout, Commercial Grade, Pb-free; Published: 6-Oct-2005; DatasheetVersion: Jun-2004; PackageVersion: revAA, 10/99; PackageReference: TS040; Publisher: Altium Limited; PackageDescription: Thin Small Outline; 40 Leads; Body Width 18.4 mm; Pitch 0.5 mm; Code_JEDEC: MO-142-CD; ComponentLink1Description: Manufacturer Link; ComponentLink1URL: http://www.spansion.com/; ComponentLink2Description: Datasheet; ComponentLink2URL: http://www.spansion.com/datasheets/21524d3.pdf
footprint TS040 (Thin Small Outline; 40 Leads; Body Width 18.4 mm; Pitch 0.5 mm)
pins: 1 A16 (in), 2 A15 (in), 3 A14 (in), 4 A13 (in), 5 A12 (in), 6 A11 (in), 7 A9 (in), 8 A8 (in), 9 WE# (in), 10 RESET# (in), 11 NC, 12 RY/BY# (out), 13 A18 (in), 14 A7 (in), 15 A6 (in), 16 A5 (in), 17 A4 (in), 18 A3 (in), 19 A2 (in), 20 A1 (in), 21 A0 (in), 22 CE# (in), 23 VSS (power), 24 OE# (in), 25 DQ0 (io), 26 DQ1 (io), 27 DQ2 (io), 28 DQ3 (io), 29 NC, 30 VCC (power), 31 VCC (power), 32 DQ4 (io), 33 DQ5 (io), 34 DQ6 (io), 35 DQ7 (io), 36 A10 (in), 37 A19 (in), 38 NC, 39 VSS (power), 40 A17 (in)

## AM29LV008BT-120EE
designator U?
8 Mb (1 M x 8) CMOS 3.0 Volt Boot Sector Flash Memory, 40-Pin TSOP Standard Pinout, Extended Grade; Published: 6-Oct-2005; DatasheetVersion: Jun-2004; PackageVersion: revAA, 10/99; PackageReference: TS040; Publisher: Altium Limited; PackageDescription: Thin Small Outline; 40 Leads; Body Width 18.4 mm; Pitch 0.5 mm; Code_JEDEC: MO-142-CD; ComponentLink1Description: Manufacturer Link; ComponentLink1URL: http://www.spansion.com/; ComponentLink2Description: Datasheet; ComponentLink2URL: http://www.spansion.com/datasheets/21524d3.pdf
footprint TS040 (Thin Small Outline; 40 Leads; Body Width 18.4 mm; Pitch 0.5 mm)
pins: 1 A16 (in), 2 A15 (in), 3 A14 (in), 4 A13 (in), 5 A12 (in), 6 A11 (in), 7 A9 (in), 8 A8 (in), 9 WE# (in), 10 RESET# (in), 11 NC, 12 RY/BY# (out), 13 A18 (in), 14 A7 (in), 15 A6 (in), 16 A5 (in), 17 A4 (in), 18 A3 (in), 19 A2 (in), 20 A1 (in), 21 A0 (in), 22 CE# (in), 23 VSS (power), 24 OE# (in), 25 DQ0 (io), 26 DQ1 (io), 27 DQ2 (io), 28 DQ3 (io), 29 NC, 30 VCC (power), 31 VCC (power), 32 DQ4 (io), 33 DQ5 (io), 34 DQ6 (io), 35 DQ7 (io), 36 A10 (in), 37 A19 (in), 38 NC, 39 VSS (power), 40 A17 (in)

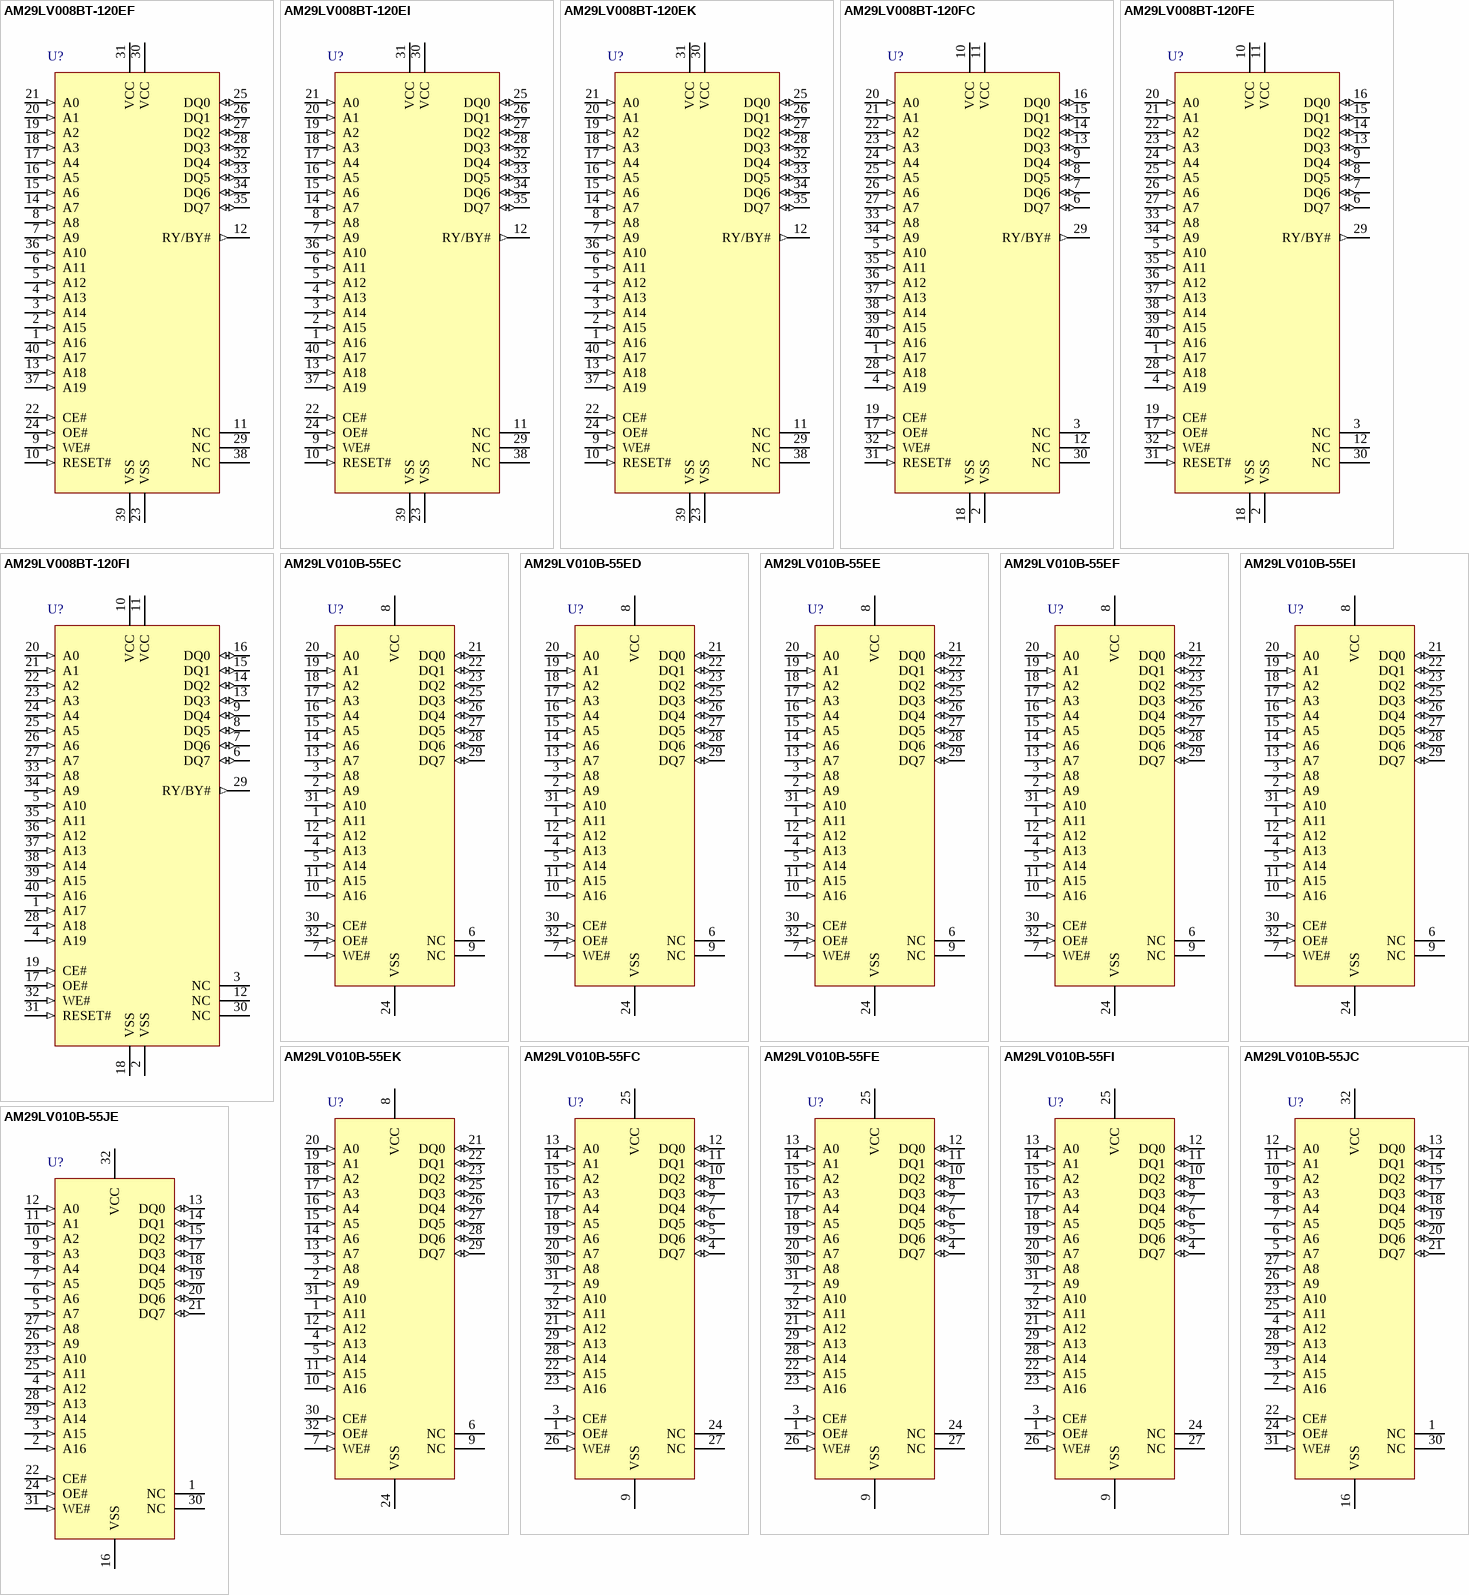
[diagram p18: symbols AM29LV008BT-120EF to AM29LV010B-55JE]

## AM29LV008BT-120EF
designator U?
8 Mb (1 M x 8) CMOS 3.0 Volt Boot Sector Flash Memory, 40-Pin TSOP Standard Pinout, Industrial Grade, Pb-free; Published: 6-Oct-2005; DatasheetVersion: Jun-2004; PackageVersion: revAA, 10/99; PackageReference: TS040; Publisher: Altium Limited; PackageDescription: Thin Small Outline; 40 Leads; Body Width 18.4 mm; Pitch 0.5 mm; Code_JEDEC: MO-142-CD; ComponentLink1Description: Manufacturer Link; ComponentLink1URL: http://www.spansion.com/; ComponentLink2Description: Datasheet; ComponentLink2URL: http://www.spansion.com/datasheets/21524d3.pdf
footprint TS040 (Thin Small Outline; 40 Leads; Body Width 18.4 mm; Pitch 0.5 mm)
pins: 1 A16 (in), 2 A15 (in), 3 A14 (in), 4 A13 (in), 5 A12 (in), 6 A11 (in), 7 A9 (in), 8 A8 (in), 9 WE# (in), 10 RESET# (in), 11 NC, 12 RY/BY# (out), 13 A18 (in), 14 A7 (in), 15 A6 (in), 16 A5 (in), 17 A4 (in), 18 A3 (in), 19 A2 (in), 20 A1 (in), 21 A0 (in), 22 CE# (in), 23 VSS (power), 24 OE# (in), 25 DQ0 (io), 26 DQ1 (io), 27 DQ2 (io), 28 DQ3 (io), 29 NC, 30 VCC (power), 31 VCC (power), 32 DQ4 (io), 33 DQ5 (io), 34 DQ6 (io), 35 DQ7 (io), 36 A10 (in), 37 A19 (in), 38 NC, 39 VSS (power), 40 A17 (in)

## AM29LV008BT-120EI
designator U?
8 Mb (1 M x 8) CMOS 3.0 Volt Boot Sector Flash Memory, 40-Pin TSOP Standard Pinout, Industrial Grade; Published: 6-Oct-2005; DatasheetVersion: Jun-2004; PackageVersion: revAA, 10/99; PackageReference: TS040; Publisher: Altium Limited; PackageDescription: Thin Small Outline; 40 Leads; Body Width 18.4 mm; Pitch 0.5 mm; Code_JEDEC: MO-142-CD; ComponentLink1Description: Manufacturer Link; ComponentLink1URL: http://www.spansion.com/; ComponentLink2Description: Datasheet; ComponentLink2URL: http://www.spansion.com/datasheets/21524d3.pdf
footprint TS040 (Thin Small Outline; 40 Leads; Body Width 18.4 mm; Pitch 0.5 mm)
pins: 1 A16 (in), 2 A15 (in), 3 A14 (in), 4 A13 (in), 5 A12 (in), 6 A11 (in), 7 A9 (in), 8 A8 (in), 9 WE# (in), 10 RESET# (in), 11 NC, 12 RY/BY# (out), 13 A18 (in), 14 A7 (in), 15 A6 (in), 16 A5 (in), 17 A4 (in), 18 A3 (in), 19 A2 (in), 20 A1 (in), 21 A0 (in), 22 CE# (in), 23 VSS (power), 24 OE# (in), 25 DQ0 (io), 26 DQ1 (io), 27 DQ2 (io), 28 DQ3 (io), 29 NC, 30 VCC (power), 31 VCC (power), 32 DQ4 (io), 33 DQ5 (io), 34 DQ6 (io), 35 DQ7 (io), 36 A10 (in), 37 A19 (in), 38 NC, 39 VSS (power), 40 A17 (in)

## AM29LV008BT-120EK
designator U?
8 Mb (1 M x 8) CMOS 3.0 Volt Boot Sector Flash Memory, 40-Pin TSOP Standard Pinout, Extended Grade, Pb-free; Published: 6-Oct-2005; DatasheetVersion: Jun-2004; PackageVersion: revAA, 10/99; PackageReference: TS040; Publisher: Altium Limited; PackageDescription: Thin Small Outline; 40 Leads; Body Width 18.4 mm; Pitch 0.5 mm; Code_JEDEC: MO-142-CD; ComponentLink1Description: Manufacturer Link; ComponentLink1URL: http://www.spansion.com/; ComponentLink2Description: Datasheet; ComponentLink2URL: http://www.spansion.com/datasheets/21524d3.pdf
footprint TS040 (Thin Small Outline; 40 Leads; Body Width 18.4 mm; Pitch 0.5 mm)
pins: 1 A16 (in), 2 A15 (in), 3 A14 (in), 4 A13 (in), 5 A12 (in), 6 A11 (in), 7 A9 (in), 8 A8 (in), 9 WE# (in), 10 RESET# (in), 11 NC, 12 RY/BY# (out), 13 A18 (in), 14 A7 (in), 15 A6 (in), 16 A5 (in), 17 A4 (in), 18 A3 (in), 19 A2 (in), 20 A1 (in), 21 A0 (in), 22 CE# (in), 23 VSS (power), 24 OE# (in), 25 DQ0 (io), 26 DQ1 (io), 27 DQ2 (io), 28 DQ3 (io), 29 NC, 30 VCC (power), 31 VCC (power), 32 DQ4 (io), 33 DQ5 (io), 34 DQ6 (io), 35 DQ7 (io), 36 A10 (in), 37 A19 (in), 38 NC, 39 VSS (power), 40 A17 (in)

## AM29LV008BT-120FC
designator U?
8 Mb (1 M x 8) CMOS 3.0 Volt Boot Sector Flash Memory, 40-Pin TSOP Reverse Pinout, Commercial Grade; Published: 6-Oct-2005; DatasheetVersion: Jun-2004; PackageVersion: revAA, 10/99; PackageReference: TSR040; Publisher: Altium Limited; PackageDescription: Thin Small Outline, Reverse Pinout; 40 Leads; Body Width 18.4 mm; Pitch 0.5 mm; Code_JEDEC: MO-142-CD; ComponentLink1Description: Manufacturer Link; ComponentLink1URL: http://www.spansion.com/; ComponentLink2Description: Datasheet; ComponentLink2URL: http://www.spansion.com/datasheets/21524d3.pdf
footprint TSR040 (Thin Small Outline, Reverse Pinout; 40 Leads; Body Width 18.4 mm; Pitch 0.5 mm)
pins: 1 A17 (in), 2 VSS (power), 3 NC, 4 A19 (in), 5 A10 (in), 6 DQ7 (io), 7 DQ6 (io), 8 DQ5 (io), 9 DQ4 (io), 10 VCC (power), 11 VCC (power), 12 NC, 13 DQ3 (io), 14 DQ2 (io), 15 DQ1 (io), 16 DQ0 (io), 17 OE# (in), 18 VSS (power), 19 CE# (in), 20 A0 (in), 21 A1 (in), 22 A2 (in), 23 A3 (in), 24 A4 (in), 25 A5 (in), 26 A6 (in), 27 A7 (in), 28 A18 (in), 29 RY/BY# (out), 30 NC, 31 RESET# (in), 32 WE# (in), 33 A8 (in), 34 A9 (in), 35 A11 (in), 36 A12 (in), 37 A13 (in), 38 A14 (in), 39 A15 (in), 40 A16 (in)

## AM29LV008BT-120FE
designator U?
8 Mb (1 M x 8) CMOS 3.0 Volt Boot Sector Flash Memory, 40-Pin TSOP Reverse Pinout, Extended Grade; Published: 6-Oct-2005; DatasheetVersion: Jun-2004; PackageVersion: revAA, 10/99; PackageReference: TSR040; Publisher: Altium Limited; PackageDescription: Thin Small Outline, Reverse Pinout; 40 Leads; Body Width 18.4 mm; Pitch 0.5 mm; Code_JEDEC: MO-142-CD; ComponentLink1Description: Manufacturer Link; ComponentLink1URL: http://www.spansion.com/; ComponentLink2Description: Datasheet; ComponentLink2URL: http://www.spansion.com/datasheets/21524d3.pdf
footprint TSR040 (Thin Small Outline, Reverse Pinout; 40 Leads; Body Width 18.4 mm; Pitch 0.5 mm)
pins: 1 A17 (in), 2 VSS (power), 3 NC, 4 A19 (in), 5 A10 (in), 6 DQ7 (io), 7 DQ6 (io), 8 DQ5 (io), 9 DQ4 (io), 10 VCC (power), 11 VCC (power), 12 NC, 13 DQ3 (io), 14 DQ2 (io), 15 DQ1 (io), 16 DQ0 (io), 17 OE# (in), 18 VSS (power), 19 CE# (in), 20 A0 (in), 21 A1 (in), 22 A2 (in), 23 A3 (in), 24 A4 (in), 25 A5 (in), 26 A6 (in), 27 A7 (in), 28 A18 (in), 29 RY/BY# (out), 30 NC, 31 RESET# (in), 32 WE# (in), 33 A8 (in), 34 A9 (in), 35 A11 (in), 36 A12 (in), 37 A13 (in), 38 A14 (in), 39 A15 (in), 40 A16 (in)

## AM29LV008BT-120FI
designator U?
8 Mb (1 M x 8) CMOS 3.0 Volt Boot Sector Flash Memory, 40-Pin TSOP Reverse Pinout, Industrial Grade; Published: 6-Oct-2005; DatasheetVersion: Jun-2004; PackageVersion: revAA, 10/99; PackageReference: TSR040; Publisher: Altium Limited; PackageDescription: Thin Small Outline, Reverse Pinout; 40 Leads; Body Width 18.4 mm; Pitch 0.5 mm; Code_JEDEC: MO-142-CD; ComponentLink1Description: Manufacturer Link; ComponentLink1URL: http://www.spansion.com/; ComponentLink2Description: Datasheet; ComponentLink2URL: http://www.spansion.com/datasheets/21524d3.pdf
footprint TSR040 (Thin Small Outline, Reverse Pinout; 40 Leads; Body Width 18.4 mm; Pitch 0.5 mm)
pins: 1 A17 (in), 2 VSS (power), 3 NC, 4 A19 (in), 5 A10 (in), 6 DQ7 (io), 7 DQ6 (io), 8 DQ5 (io), 9 DQ4 (io), 10 VCC (power), 11 VCC (power), 12 NC, 13 DQ3 (io), 14 DQ2 (io), 15 DQ1 (io), 16 DQ0 (io), 17 OE# (in), 18 VSS (power), 19 CE# (in), 20 A0 (in), 21 A1 (in), 22 A2 (in), 23 A3 (in), 24 A4 (in), 25 A5 (in), 26 A6 (in), 27 A7 (in), 28 A18 (in), 29 RY/BY# (out), 30 NC, 31 RESET# (in), 32 WE# (in), 33 A8 (in), 34 A9 (in), 35 A11 (in), 36 A12 (in), 37 A13 (in), 38 A14 (in), 39 A15 (in), 40 A16 (in)

## AM29LV010B-55EC
designator U?
1 Mb (128 K x 8) CMOS 3.0 Volt Uniform Sector Flash Memory, 32-Pin TSOP Standard Pinout, Commercial Grade; Published: 6-Oct-2005; DatasheetVersion: Jun-2005; PackageVersion: revAA, 10/99; PackageReference: TS032; Publisher: Altium Limited; PackageDescription: Thin Small Outline; 32 Leads; Body Width 18.4 mm; Pitch 0.5 mm; Code_JEDEC: MO-142-BD; ComponentLink1Description: Manufacturer Link; ComponentLink1URL: http://www.spansion.com/; ComponentLink2Description: Datasheet; ComponentLink2URL: http://www.spansion.com/datasheets/22140d3.pdf
footprint TS032 (Thin Small Outline; 32 Leads; Body Width 18.4 mm; Pitch 0.5 mm)
pins: 1 A11 (in), 2 A9 (in), 3 A8 (in), 4 A13 (in), 5 A14 (in), 6 NC, 7 WE# (in), 8 VCC (power), 9 NC, 10 A16 (in), 11 A15 (in), 12 A12 (in), 13 A7 (in), 14 A6 (in), 15 A5 (in), 16 A4 (in), 17 A3 (in), 18 A2 (in), 19 A1 (in), 20 A0 (in), 21 DQ0 (io), 22 DQ1 (io), 23 DQ2 (io), 24 VSS (power), 25 DQ3 (io), 26 DQ4 (io), 27 DQ5 (io), 28 DQ6 (io), 29 DQ7 (io), 30 CE# (in), 31 A10 (in), 32 OE# (in)

## AM29LV010B-55ED
designator U?
1 Mb (128 K x 8) CMOS 3.0 Volt Uniform Sector Flash Memory, 32-Pin TSOP Standard Pinout, Commercial Grade, Pb-free; Published: 6-Oct-2005; DatasheetVersion: Jun-2005; PackageVersion: revAA, 10/99; PackageReference: TS032; Publisher: Altium Limited; PackageDescription: Thin Small Outline; 32 Leads; Body Width 18.4 mm; Pitch 0.5 mm; Code_JEDEC: MO-142-BD; ComponentLink1Description: Manufacturer Link; ComponentLink1URL: http://www.spansion.com/; ComponentLink2Description: Datasheet; ComponentLink2URL: http://www.spansion.com/datasheets/22140d3.pdf
footprint TS032 (Thin Small Outline; 32 Leads; Body Width 18.4 mm; Pitch 0.5 mm)
pins: 1 A11 (in), 2 A9 (in), 3 A8 (in), 4 A13 (in), 5 A14 (in), 6 NC, 7 WE# (in), 8 VCC (power), 9 NC, 10 A16 (in), 11 A15 (in), 12 A12 (in), 13 A7 (in), 14 A6 (in), 15 A5 (in), 16 A4 (in), 17 A3 (in), 18 A2 (in), 19 A1 (in), 20 A0 (in), 21 DQ0 (io), 22 DQ1 (io), 23 DQ2 (io), 24 VSS (power), 25 DQ3 (io), 26 DQ4 (io), 27 DQ5 (io), 28 DQ6 (io), 29 DQ7 (io), 30 CE# (in), 31 A10 (in), 32 OE# (in)

## AM29LV010B-55EE
designator U?
1 Mb (128 K x 8) CMOS 3.0 Volt Uniform Sector Flash Memory, 32-Pin TSOP Standard Pinout, Extended Grade; Published: 6-Oct-2005; DatasheetVersion: Jun-2005; PackageVersion: revAA, 10/99; PackageReference: TS032; Publisher: Altium Limited; PackageDescription: Thin Small Outline; 32 Leads; Body Width 18.4 mm; Pitch 0.5 mm; Code_JEDEC: MO-142-BD; ComponentLink1Description: Manufacturer Link; ComponentLink1URL: http://www.spansion.com/; ComponentLink2Description: Datasheet; ComponentLink2URL: http://www.spansion.com/datasheets/22140d3.pdf
footprint TS032 (Thin Small Outline; 32 Leads; Body Width 18.4 mm; Pitch 0.5 mm)
pins: 1 A11 (in), 2 A9 (in), 3 A8 (in), 4 A13 (in), 5 A14 (in), 6 NC, 7 WE# (in), 8 VCC (power), 9 NC, 10 A16 (in), 11 A15 (in), 12 A12 (in), 13 A7 (in), 14 A6 (in), 15 A5 (in), 16 A4 (in), 17 A3 (in), 18 A2 (in), 19 A1 (in), 20 A0 (in), 21 DQ0 (io), 22 DQ1 (io), 23 DQ2 (io), 24 VSS (power), 25 DQ3 (io), 26 DQ4 (io), 27 DQ5 (io), 28 DQ6 (io), 29 DQ7 (io), 30 CE# (in), 31 A10 (in), 32 OE# (in)

## AM29LV010B-55EF
designator U?
1 Mb (128 K x 8) CMOS 3.0 Volt Uniform Sector Flash Memory, 32-Pin TSOP Standard Pinout, Industrial Grade, Pb-free; Published: 6-Oct-2005; DatasheetVersion: Jun-2005; PackageVersion: revAA, 10/99; PackageReference: TS032; Publisher: Altium Limited; PackageDescription: Thin Small Outline; 32 Leads; Body Width 18.4 mm; Pitch 0.5 mm; Code_JEDEC: MO-142-BD; ComponentLink1Description: Manufacturer Link; ComponentLink1URL: http://www.spansion.com/; ComponentLink2Description: Datasheet; ComponentLink2URL: http://www.spansion.com/datasheets/22140d3.pdf
footprint TS032 (Thin Small Outline; 32 Leads; Body Width 18.4 mm; Pitch 0.5 mm)
pins: 1 A11 (in), 2 A9 (in), 3 A8 (in), 4 A13 (in), 5 A14 (in), 6 NC, 7 WE# (in), 8 VCC (power), 9 NC, 10 A16 (in), 11 A15 (in), 12 A12 (in), 13 A7 (in), 14 A6 (in), 15 A5 (in), 16 A4 (in), 17 A3 (in), 18 A2 (in), 19 A1 (in), 20 A0 (in), 21 DQ0 (io), 22 DQ1 (io), 23 DQ2 (io), 24 VSS (power), 25 DQ3 (io), 26 DQ4 (io), 27 DQ5 (io), 28 DQ6 (io), 29 DQ7 (io), 30 CE# (in), 31 A10 (in), 32 OE# (in)

## AM29LV010B-55EI
designator U?
1 Mb (128 K x 8) CMOS 3.0 Volt Uniform Sector Flash Memory, 32-Pin TSOP Standard Pinout, Industrial Grade; Published: 6-Oct-2005; DatasheetVersion: Jun-2005; PackageVersion: revAA, 10/99; PackageReference: TS032; Publisher: Altium Limited; PackageDescription: Thin Small Outline; 32 Leads; Body Width 18.4 mm; Pitch 0.5 mm; Code_JEDEC: MO-142-BD; ComponentLink1Description: Manufacturer Link; ComponentLink1URL: http://www.spansion.com/; ComponentLink2Description: Datasheet; ComponentLink2URL: http://www.spansion.com/datasheets/22140d3.pdf
footprint TS032 (Thin Small Outline; 32 Leads; Body Width 18.4 mm; Pitch 0.5 mm)
pins: 1 A11 (in), 2 A9 (in), 3 A8 (in), 4 A13 (in), 5 A14 (in), 6 NC, 7 WE# (in), 8 VCC (power), 9 NC, 10 A16 (in), 11 A15 (in), 12 A12 (in), 13 A7 (in), 14 A6 (in), 15 A5 (in), 16 A4 (in), 17 A3 (in), 18 A2 (in), 19 A1 (in), 20 A0 (in), 21 DQ0 (io), 22 DQ1 (io), 23 DQ2 (io), 24 VSS (power), 25 DQ3 (io), 26 DQ4 (io), 27 DQ5 (io), 28 DQ6 (io), 29 DQ7 (io), 30 CE# (in), 31 A10 (in), 32 OE# (in)

## AM29LV010B-55EK
designator U?
1 Mb (128 K x 8) CMOS 3.0 Volt Uniform Sector Flash Memory, 32-Pin TSOP Standard Pinout, Extended Grade, Pb-free; Published: 6-Oct-2005; DatasheetVersion: Jun-2005; PackageVersion: revAA, 10/99; PackageReference: TS032; Publisher: Altium Limited; PackageDescription: Thin Small Outline; 32 Leads; Body Width 18.4 mm; Pitch 0.5 mm; Code_JEDEC: MO-142-BD; ComponentLink1Description: Manufacturer Link; ComponentLink1URL: http://www.spansion.com/; ComponentLink2Description: Datasheet; ComponentLink2URL: http://www.spansion.com/datasheets/22140d3.pdf
footprint TS032 (Thin Small Outline; 32 Leads; Body Width 18.4 mm; Pitch 0.5 mm)
pins: 1 A11 (in), 2 A9 (in), 3 A8 (in), 4 A13 (in), 5 A14 (in), 6 NC, 7 WE# (in), 8 VCC (power), 9 NC, 10 A16 (in), 11 A15 (in), 12 A12 (in), 13 A7 (in), 14 A6 (in), 15 A5 (in), 16 A4 (in), 17 A3 (in), 18 A2 (in), 19 A1 (in), 20 A0 (in), 21 DQ0 (io), 22 DQ1 (io), 23 DQ2 (io), 24 VSS (power), 25 DQ3 (io), 26 DQ4 (io), 27 DQ5 (io), 28 DQ6 (io), 29 DQ7 (io), 30 CE# (in), 31 A10 (in), 32 OE# (in)

## AM29LV010B-55FC
designator U?
1 Mb (128 K x 8) CMOS 3.0 Volt Uniform Sector Flash Memory, 32-Pin TSOP Reverse Pinout, Commercial Grade; Published: 6-Oct-2005; DatasheetVersion: Jun-2005; PackageVersion: revAA, 10/99; PackageReference: TSR032; Publisher: Altium Limited; PackageDescription: Thin Small Outline, Reverse Pinout; 32 Leads; Body Width 18.4 mm; Pitch 0.5 mm; Code_JEDEC: MO-142-BD; ComponentLink1Description: Manufacturer Link; ComponentLink1URL: http://www.spansion.com/; ComponentLink2Description: Datasheet; ComponentLink2URL: http://www.spansion.com/datasheets/22140d3.pdf
footprint TSR032 (Thin Small Outline, Reverse Pinout; 32 Leads; Body Width 18.4 mm; Pitch 0.5 mm)
pins: 1 OE# (in), 2 A10 (in), 3 CE# (in), 4 DQ7 (io), 5 DQ6 (io), 6 DQ5 (io), 7 DQ4 (io), 8 DQ3 (io), 9 VSS (power), 10 DQ2 (io), 11 DQ1 (io), 12 DQ0 (io), 13 A0 (in), 14 A1 (in), 15 A2 (in), 16 A3 (in), 17 A4 (in), 18 A5 (in), 19 A6 (in), 20 A7 (in), 21 A12 (in), 22 A15 (in), 23 A16 (in), 24 NC, 25 VCC (power), 26 WE# (in), 27 NC, 28 A14 (in), 29 A13 (in), 30 A8 (in), 31 A9 (in), 32 A11 (in)

## AM29LV010B-55FE
designator U?
1 Mb (128 K x 8) CMOS 3.0 Volt Uniform Sector Flash Memory, 32-Pin TSOP Reverse Pinout, Extended Grade; Published: 6-Oct-2005; DatasheetVersion: Jun-2005; PackageVersion: revAA, 10/99; PackageReference: TSR032; Publisher: Altium Limited; PackageDescription: Thin Small Outline, Reverse Pinout; 32 Leads; Body Width 18.4 mm; Pitch 0.5 mm; Code_JEDEC: MO-142-BD; ComponentLink1Description: Manufacturer Link; ComponentLink1URL: http://www.spansion.com/; ComponentLink2Description: Datasheet; ComponentLink2URL: http://www.spansion.com/datasheets/22140d3.pdf
footprint TSR032 (Thin Small Outline, Reverse Pinout; 32 Leads; Body Width 18.4 mm; Pitch 0.5 mm)
pins: 1 OE# (in), 2 A10 (in), 3 CE# (in), 4 DQ7 (io), 5 DQ6 (io), 6 DQ5 (io), 7 DQ4 (io), 8 DQ3 (io), 9 VSS (power), 10 DQ2 (io), 11 DQ1 (io), 12 DQ0 (io), 13 A0 (in), 14 A1 (in), 15 A2 (in), 16 A3 (in), 17 A4 (in), 18 A5 (in), 19 A6 (in), 20 A7 (in), 21 A12 (in), 22 A15 (in), 23 A16 (in), 24 NC, 25 VCC (power), 26 WE# (in), 27 NC, 28 A14 (in), 29 A13 (in), 30 A8 (in), 31 A9 (in), 32 A11 (in)

## AM29LV010B-55FI
designator U?
1 Mb (128 K x 8) CMOS 3.0 Volt Uniform Sector Flash Memory, 32-Pin TSOP Reverse Pinout, Industrial Grade; Published: 6-Oct-2005; DatasheetVersion: Jun-2005; PackageVersion: revAA, 10/99; PackageReference: TSR032; Publisher: Altium Limited; PackageDescription: Thin Small Outline, Reverse Pinout; 32 Leads; Body Width 18.4 mm; Pitch 0.5 mm; Code_JEDEC: MO-142-BD; ComponentLink1Description: Manufacturer Link; ComponentLink1URL: http://www.spansion.com/; ComponentLink2Description: Datasheet; ComponentLink2URL: http://www.spansion.com/datasheets/22140d3.pdf
footprint TSR032 (Thin Small Outline, Reverse Pinout; 32 Leads; Body Width 18.4 mm; Pitch 0.5 mm)
pins: 1 OE# (in), 2 A10 (in), 3 CE# (in), 4 DQ7 (io), 5 DQ6 (io), 6 DQ5 (io), 7 DQ4 (io), 8 DQ3 (io), 9 VSS (power), 10 DQ2 (io), 11 DQ1 (io), 12 DQ0 (io), 13 A0 (in), 14 A1 (in), 15 A2 (in), 16 A3 (in), 17 A4 (in), 18 A5 (in), 19 A6 (in), 20 A7 (in), 21 A12 (in), 22 A15 (in), 23 A16 (in), 24 NC, 25 VCC (power), 26 WE# (in), 27 NC, 28 A14 (in), 29 A13 (in), 30 A8 (in), 31 A9 (in), 32 A11 (in)

## AM29LV010B-55JC
designator U?
1 Mb (128 K x 8) CMOS 3.0 Volt Uniform Sector Flash Memory, 32-Pin Rectangular PLCC, Commercial Grade; Published: 6-Oct-2005; DatasheetVersion: Jun-2005; PackageVersion: revAH, 10/99; PackageReference: PL032; Publisher: Altium Limited; PackageDescription: Leaded Chip Carrier, Plastic; 32 Leads; Body 11.4 x 14 mm; Code_JEDEC: MS-016-AE; Code_IPC: PLCC/R-32; ComponentLink1Description: Manufacturer Link; ComponentLink1URL: http://www.spansion.com/; ComponentLink2Description: Datasheet; ComponentLink2URL: http://www.spansion.com/datasheets/22140d3.pdf
footprint PL032 (Leaded Chip Carrier, Plastic; 32 Leads; Body 11.4 x 14 mm)
pins: 1 NC, 2 A16 (in), 3 A15 (in), 4 A12 (in), 5 A7 (in), 6 A6 (in), 7 A5 (in), 8 A4 (in), 9 A3 (in), 10 A2 (in), 11 A1 (in), 12 A0 (in), 13 DQ0 (io), 14 DQ1 (io), 15 DQ2 (io), 16 VSS (power), 17 DQ3 (io), 18 DQ4 (io), 19 DQ5 (io), 20 DQ6 (io), 21 DQ7 (io), 22 CE# (in), 23 A10 (in), 24 OE# (in), 25 A11 (in), 26 A9 (in), 27 A8 (in), 28 A13 (in), 29 A14 (in), 30 NC, 31 WE# (in), 32 VCC (power)

## AM29LV010B-55JE
designator U?
1 Mb (128 K x 8) CMOS 3.0 Volt Uniform Sector Flash Memory, 32-Pin Rectangular PLCC, Extended Grade; Published: 6-Oct-2005; DatasheetVersion: Jun-2005; PackageVersion: revAH, 10/99; PackageReference: PL032; Publisher: Altium Limited; PackageDescription: Leaded Chip Carrier, Plastic; 32 Leads; Body 11.4 x 14 mm; Code_JEDEC: MS-016-AE; Code_IPC: PLCC/R-32; ComponentLink1Description: Manufacturer Link; ComponentLink1URL: http://www.spansion.com/; ComponentLink2Description: Datasheet; ComponentLink2URL: http://www.spansion.com/datasheets/22140d3.pdf
footprint PL032 (Leaded Chip Carrier, Plastic; 32 Leads; Body 11.4 x 14 mm)
pins: 1 NC, 2 A16 (in), 3 A15 (in), 4 A12 (in), 5 A7 (in), 6 A6 (in), 7 A5 (in), 8 A4 (in), 9 A3 (in), 10 A2 (in), 11 A1 (in), 12 A0 (in), 13 DQ0 (io), 14 DQ1 (io), 15 DQ2 (io), 16 VSS (power), 17 DQ3 (io), 18 DQ4 (io), 19 DQ5 (io), 20 DQ6 (io), 21 DQ7 (io), 22 CE# (in), 23 A10 (in), 24 OE# (in), 25 A11 (in), 26 A9 (in), 27 A8 (in), 28 A13 (in), 29 A14 (in), 30 NC, 31 WE# (in), 32 VCC (power)

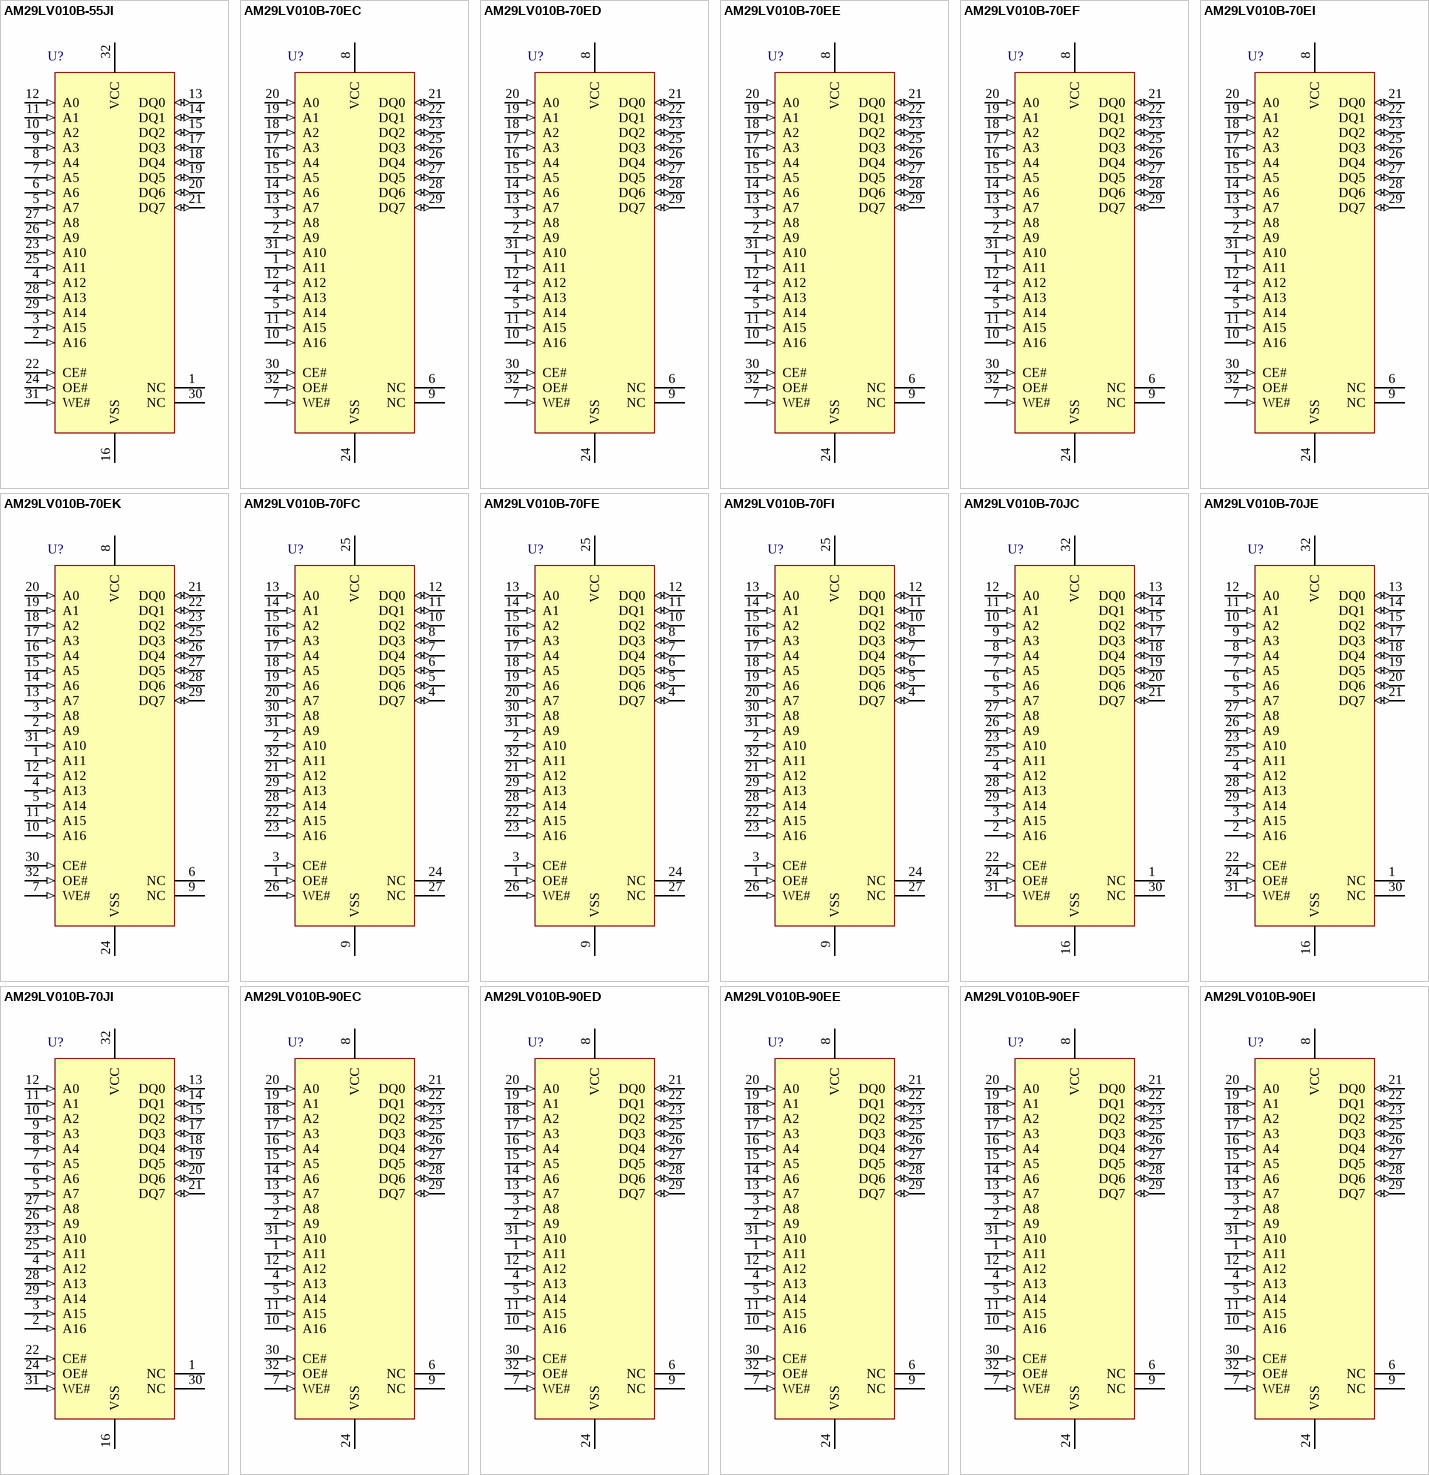
[diagram p19: symbols AM29LV010B-55JI to AM29LV010B-90EI]